# Altium footprint library Interface.PcbLib: 14 footprints
Each footprint in its own frame and in the unit in brackets; x right, y up, seen from the top. Pads: shape width x height; smd on the part's side, far side on the other; paste and mask are expansions set on the pad; w line width, h text height; cw(c..) or ccw(c..) is an arc to the next point about the centre after c.
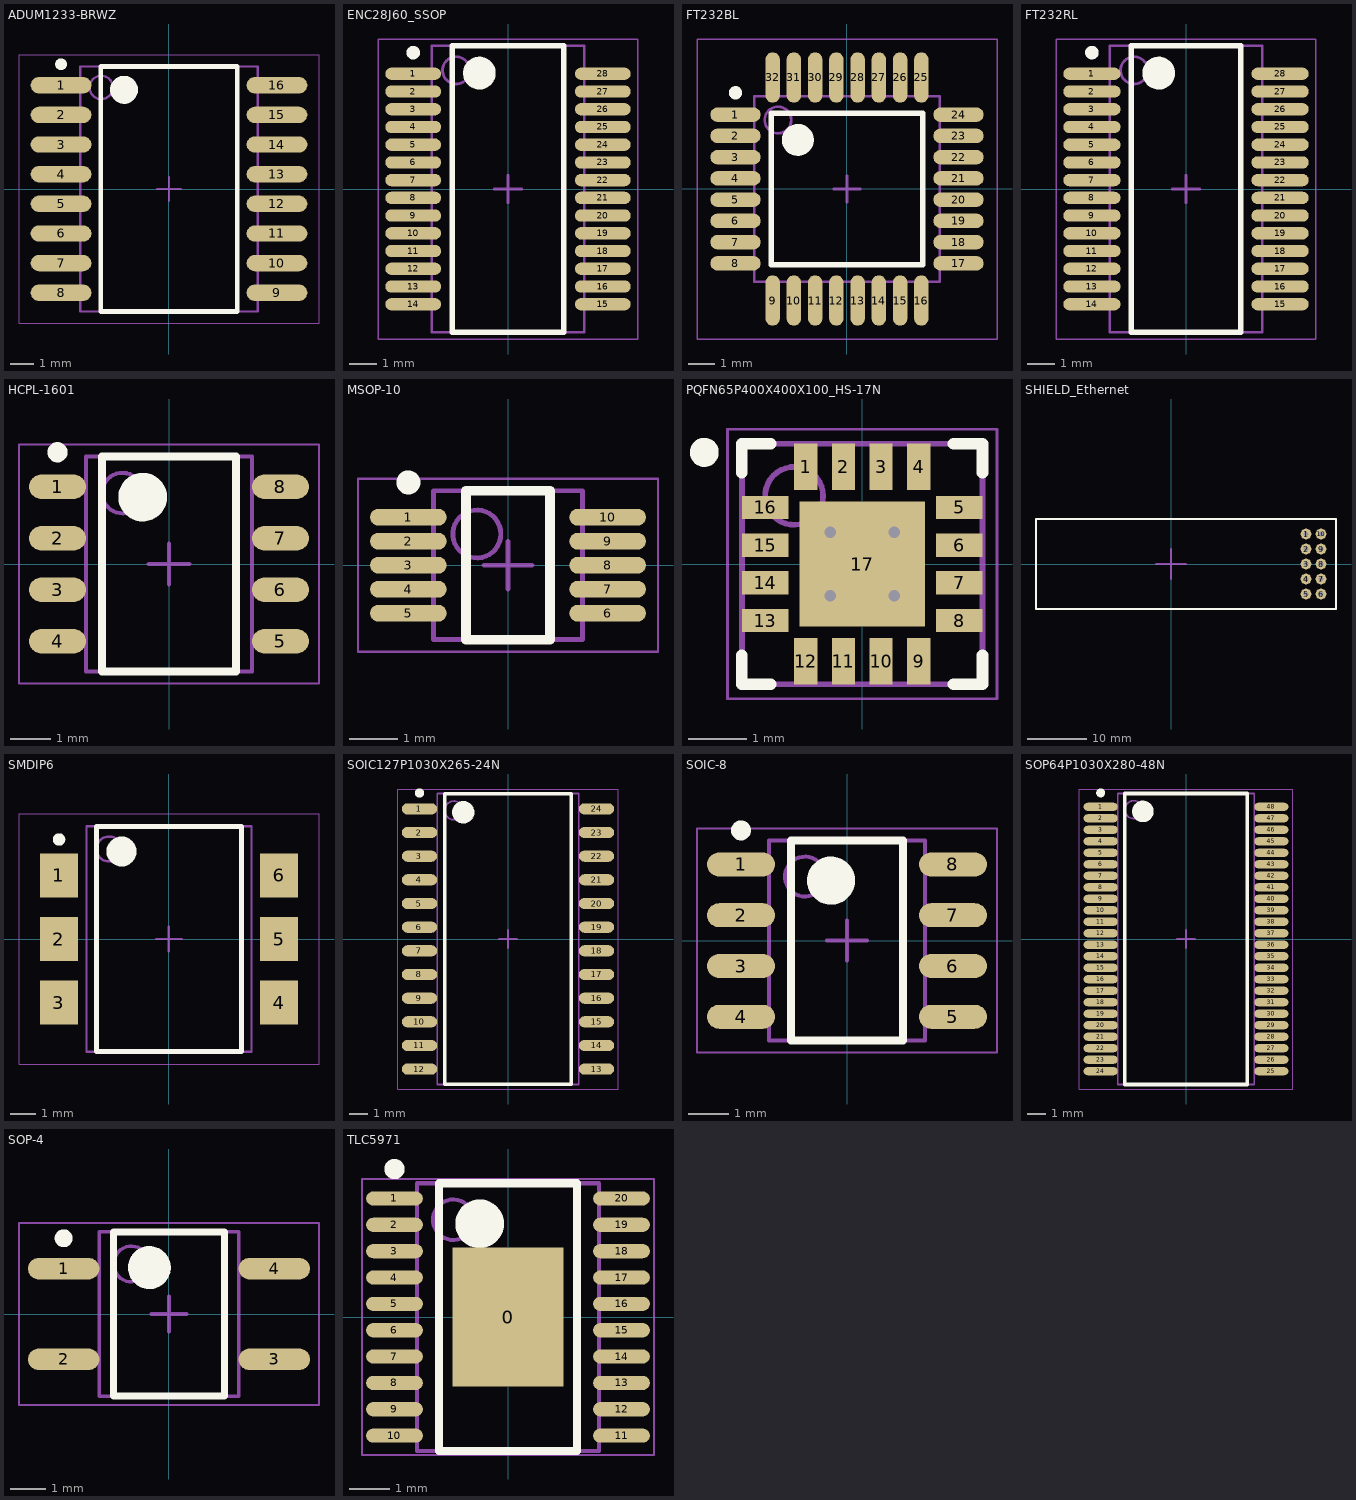
[diagram p0: the footprints below, top view; thin cyan lines are the x and y axes]

## ADUM1233-BRWZ [mm] "16-Lead Standard Small Outline Package [SOIC_W]   Wide Body   (RW-16)"
height 2.65
pads (16):
  oval 2.6x0.7 smd: 1(-4.625,4.445) 2(-4.625,3.175) 3(-4.625,1.905) 4(-4.625,0.635) 5(-4.625,-0.635) 6(-4.625,-1.905) 7(-4.625,-3.175) 8(-4.625,-4.445) 9(4.625,-4.445) 10(4.625,-3.175) 11(4.625,-1.905) 12(4.625,-0.635) 13(4.625,0.635) 14(4.625,1.905) 15(4.625,3.175) 16(4.625,4.445)
Top Overlay:
  circle w0.6: c-1.925,4.25 r0.3
  circle w0.25: c-4.625,5.345 r0.125
  lines w0.2: -2.925,-5.25 2.925,-5.25 2.925,5.25 -2.925,5.25 -2.925,-5.25
Mechanical 13:
  circle w0.1: c-2.9,4.35 r0.5
  lines w0.1: -3.8,-5.25 3.8,-5.25 3.8,5.25 -3.8,5.25 -3.8,-5.25
Mechanical 15:
  lines w0.05: -6.425,-5.75 6.425,-5.75 6.425,5.75 -6.425,5.75 -6.425,-5.75
  lines w0.1: -0.5,0 0.5,0 ; 0,-0.5 0,0.5
3D body: height 2.65, standoff 0.1, extent -3.8,-5.25 3.8,5.25

## ENC28J60_SSOP [mm] "SOP, 28-Leads, Body 10,20x5,30mm, Pitch 0,65mm, IPC Medium Density"
height 2
pads (28):
  oval 2.05x0.45 smd: 1(-3.475,4.225) 2(-3.475,3.575) 3(-3.475,2.925) 4(-3.475,2.275) 5(-3.475,1.625) 6(-3.475,0.975) 7(-3.475,0.325) 8(-3.475,-0.325) 9(-3.475,-0.975) 10(-3.475,-1.625) 11(-3.475,-2.275) 12(-3.475,-2.925) 13(-3.475,-3.575) 14(-3.475,-4.225) 15(3.475,-4.225) 16(3.475,-3.575) 17(3.475,-2.925) 18(3.475,-2.275) 19(3.475,-1.625) 20(3.475,-0.975) 21(3.475,-0.325) 22(3.475,0.325) 23(3.475,0.975) 24(3.475,1.625) 25(3.475,2.275) 26(3.475,2.925) 27(3.475,3.575) 28(3.475,4.225)
Top Overlay:
  circle w0.6: c-1.05,4.25 r0.3
  circle w0.25: c-3.475,5 r0.125
  lines w0.2: -2.05,-5.25 2.05,-5.25 2.05,5.25 -2.05,5.25 -2.05,-5.25
Mechanical 13:
  circle w0.1: c-1.9,4.35 r0.5
  lines w0.1: -2.8,-5.25 2.8,-5.25 2.8,5.25 -2.8,5.25 -2.8,-5.25
Mechanical 15:
  lines w0.05: -4.75,-5.5 4.75,-5.5 4.75,5.5 -4.75,5.5 -4.75,-5.5
  lines w0.1: -0.5,0 0.5,0 ; 0,-0.5 0,0.5
3D body: height 2, standoff 0.05, extent -2.8,-5.25 2.8,5.25

## FT232BL [mm] "LQFP, 32-Leads, Body 7,00x7,00mm, Pitch 0,80mm, IPC Low Density"
height 1.6
pads (32):
  oval 1.9x0.55 smd: 1(-4.2,2.8) 2(-4.2,2) 3(-4.2,1.2) 4(-4.2,0.4) 5(-4.2,-0.4) 6(-4.2,-1.2) 7(-4.2,-2) 8(-4.2,-2.8) 17(4.2,-2.8) 18(4.2,-2) 19(4.2,-1.2) 20(4.2,-0.4) 21(4.2,0.4) 22(4.2,1.2) 23(4.2,2) 24(4.2,2.8)
  oval 0.55x1.9 smd: 9(-2.8,-4.2) 10(-2,-4.2) 11(-1.2,-4.2) 12(-0.4,-4.2) 13(0.4,-4.2) 14(1.2,-4.2) 15(2,-4.2) 16(2.8,-4.2) 25(2.8,4.2) 26(2,4.2) 27(1.2,4.2) 28(0.4,4.2) 29(-0.4,4.2) 30(-1.2,4.2) 31(-2,4.2) 32(-2.8,4.2)
Top Overlay:
  circle w0.6: c-1.85,1.85 r0.3
  circle w0.25: c-4.2,3.625 r0.125
  lines w0.2: -2.85,-2.85 2.85,-2.85 2.85,2.85 -2.85,2.85 -2.85,-2.85
Mechanical 13:
  circle w0.1: c-2.6,2.6 r0.5
  lines w0.1: -3.5,-3.5 3.5,-3.5 3.5,3.5 -3.5,3.5 -3.5,-3.5
Mechanical 15:
  lines w0.05: -5.65,-5.65 5.65,-5.65 5.65,5.65 -5.65,5.65 -5.65,-5.65
  lines w0.1: -0.5,0 0.5,0 ; 0,-0.5 0,0.5
3D body: height 1.6, standoff 0.05, extent -3.5,-3.5 3.5,3.5

## FT232RL [mm] "SOP, 28-Leads, Body 10,20x5,30mm, Pitch 0,65mm, IPC Medium Density"
height 2
pads (28):
  oval 2.1x0.45 smd: 1(-3.45,4.225) 2(-3.45,3.575) 3(-3.45,2.925) 4(-3.45,2.275) 5(-3.45,1.625) 6(-3.45,0.975) 7(-3.45,0.325) 8(-3.45,-0.325) 9(-3.45,-0.975) 10(-3.45,-1.625) 11(-3.45,-2.275) 12(-3.45,-2.925) 13(-3.45,-3.575) 14(-3.45,-4.225) 15(3.45,-4.225) 16(3.45,-3.575) 17(3.45,-2.925) 18(3.45,-2.275) 19(3.45,-1.625) 20(3.45,-0.975) 21(3.45,-0.325) 22(3.45,0.325) 23(3.45,0.975) 24(3.45,1.625) 25(3.45,2.275) 26(3.45,2.925) 27(3.45,3.575) 28(3.45,4.225)
Top Overlay:
  circle w0.25: c-3.45,5 r0.125
  circle w0.6: c-1,4.25 r0.3
  lines w0.2: -2,-5.25 -2,5.25 2,5.25 2,-5.25 -2,-5.25
Mechanical 13:
  circle w0.1: c-1.9,4.35 r0.5
  lines w0.1: -2.8,-5.25 -2.8,5.25 2.8,5.25 2.8,-5.25 -2.8,-5.25
Mechanical 15:
  lines w0.05: -4.75,-5.5 -4.75,5.5 4.75,5.5 4.75,-5.5 -4.75,-5.5
  lines w0.1: -0.5,0 0.5,0 ; 0,-0.5 0,0.5
3D body: height 2, standoff 0.05, extent -2.8,-5.25 2.8,5.25

## HCPL-1601 [mm] "SOIC, 8-Leads, Body 5,21x3,94mm, Pitch 1,27mm, IPC Medium Density"
height 3.31
pads (8):
  oval 1.4x0.6 smd: 1(-2.75,1.905) 2(-2.75,0.635) 3(-2.75,-0.635) 4(-2.75,-1.905) 5(2.75,-1.905) 6(2.75,-0.635) 7(2.75,0.635) 8(2.75,1.905)
Top Overlay:
  circle w0.6: c-0.65,1.65 r0.3
  circle w0.25: c-2.75,2.755 r0.125
  lines w0.2: -1.65,-2.65 1.65,-2.65 1.65,2.65 -1.65,2.65 -1.65,-2.65
Mechanical 13:
  circle w0.1: c-1.15,1.75 r0.5
  lines w0.1: -2.05,-2.65 2.05,-2.65 2.05,2.65 -2.05,2.65 -2.05,-2.65
Mechanical 15:
  lines w0.05: -3.7,-2.95 3.7,-2.95 3.7,2.95 -3.7,2.95 -3.7,-2.95
  lines w0.1: -0.5,0 0.5,0 ; 0,-0.5 0,0.5
3D body "HCPL-1601.step": height 3.3, standoff 0, extent -2.997,-2.65 2.997,2.65

## MSOP-10 [mm]
height 1.09
pads (10):
  oval 1.6x0.35 smd: 1(-2.075,1) 2(-2.075,0.5) 3(-2.075,0) 4(-2.075,-0.5) 5(-2.075,-1) 6(2.075,-1) 7(2.075,-0.5) 8(2.075,0) 9(2.075,0.5) 10(2.075,1)
Top Overlay:
  circle w0.25: c-2.075,1.725 r0.125
  lines w0.2: -0.875,-1.55 -0.875,1.55 0.875,1.55 0.875,-1.55 -0.875,-1.55
Mechanical 13:
  circle w0.1: c-0.65,0.65 r0.5
  lines w0.1: -1.55,-1.55 -1.55,1.55 1.55,1.55 1.55,-1.55 -1.55,-1.55
Mechanical 15:
  lines w0.05: -3.125,-1.8 -3.125,1.8 3.125,1.8 3.125,-1.8 -3.125,-1.8
  lines w0.1: -0.5,0 0.5,0 ; 0,-0.5 0,0.5
3D body: height 1.09, standoff 0.06, extent -1.55,-1.55 1.55,1.55

## PQFN65P400X400X100_HS-17N [mm] "PQFN, 16-Leads, Body 4,00x4,00mm, Pitch 0,65mm, Thermal Pad 2,16x2,16mm, IPC Medium Density"
height 1
pads (17):
  rect 0.4x0.8 smd: 1(-0.975,1.675) 2(-0.325,1.675) 3(0.325,1.675) 4(0.975,1.675) 9(0.975,-1.675) 10(0.325,-1.675) 11(-0.325,-1.675) 12(-0.975,-1.675)
  rect 0.8x0.4 smd: 5(1.675,0.975) 6(1.675,0.325) 7(1.675,-0.325) 8(1.675,-0.975) 13(-1.675,-0.975) 14(-1.675,-0.325) 15(-1.675,0.325) 16(-1.675,0.975)
  rect 2.16x2.16 smd: 17(0,0)
via 0.55,-0.55 diameter 0.5 hole 0.2
via -0.55,-0.55 diameter 0.5 hole 0.2
via 0.55,0.55 diameter 0.5 hole 0.2
via -0.55,0.55 diameter 0.5 hole 0.2
Top Overlay:
  circle w0.25: c-2.725,1.925 r0.125
  lines w0.2: -2.075,-1.575 -2.075,-2.075 -1.575,-2.075 ; -2.075,1.575 -2.075,2.075 -1.575,2.075 ; 1.575,-2.075 2.075,-2.075 2.075,-1.575 ; 1.575,2.075 2.075,2.075 2.075,1.575
Mechanical 13:
  circle w0.1: c-1.175,1.175 r0.5
  lines w0.1: -2.075,-2.075 2.075,-2.075 2.075,2.075 -2.075,2.075 -2.075,-2.075
Mechanical 15:
  lines w0.05: -2.325,-2.325 2.325,-2.325 2.325,2.325 -2.325,2.325 -2.325,-2.325
  lines w0.1: -0.5,0 0.5,0 ; 0,-0.5 0,0.5
3D body "PQFN65P400X400X100_HS-17N.step": height 1, standoff 0, extent -2.075,-2.075 2.075,2.075

## SHIELD_Ethernet [mm] "Ethernet shield (почти)"
height 15
pads (10):
  round 1.8 hole 0.9: 1(22.86,5.08) 2(22.86,2.54) 3(22.86,0) 4(22.86,-2.54) 5(22.86,-5.08) 6(25.4,-5.08) 7(25.4,-2.54) 8(25.4,0) 9(25.4,2.54) 10(25.4,5.08)
Top Overlay:
  lines w0.3: -22.86,-7.62 -22.86,7.62 27.94,7.62 27.94,-7.62 -22.86,-7.62
Mechanical 13:
  lines w0.3: -22.86,-7.62 -22.86,7.62 27.94,7.62 27.94,-7.62 -22.86,-7.62
Mechanical 15:
  lines w0.3: -2.54,0 0,0 ; 0,-2.54 0,0 ; 0,2.54 0,0 ; 2.54,0 0,0 ; -22.86,-7.62 -22.86,7.62 27.94,7.62 27.94,-7.62 -22.86,-7.62
3D body: height 13, standoff 0.1, extent -22.86,-7.62 -7.62,7.62
3D body: height 15, standoff 13, extent -22.86,-7.62 27.94,7.62
3D body: height 13, standoff 0, extent 21.59,-6.35 26.67,6.35

## SMDIP6 [mm] "SMDIP-6"
height 5.08
pads (6):
  rect 1.52x1.78 smd: 1(-4.4,2.54) 2(-4.4,0) 3(-4.4,-2.54) 4(4.4,-2.54) 5(4.4,0) 6(4.4,2.54)
Top Overlay:
  circle w0.25: c-4.4,3.98 r0.125
  circle w0.6: c-1.9,3.5 r0.3
  lines w0.2: -2.9,-4.5 -2.9,4.5 2.9,4.5 2.9,-4.5 -2.9,-4.5
Mechanical 13:
  circle w0.1: c-2.4,3.6 r0.5
  lines w0.1: -3.3,-4.5 -3.3,4.5 3.3,4.5 3.3,-4.5 -3.3,-4.5
Mechanical 15:
  lines w0.05: -6,-5 -6,5 6,5 6,-5 -6,-5
  lines w0.1: -0.5,0 0.5,0 ; 0,-0.5 0,0.5
3D body "SMDIP6.step": height 5.08, standoff 0, extent -4.583,-4.5 4.583,4.5

## SOIC127P1030X265-24N [mm] "SOIC, 24-Leads, Body 15,40x7,50mm, Pitch 1,27mm, IPC Medium Density"
height 2.65
pads (24):
  oval 1.9x0.6 smd: 1(-4.75,6.985) 2(-4.75,5.715) 3(-4.75,4.445) 4(-4.75,3.175) 5(-4.75,1.905) 6(-4.75,0.635) 7(-4.75,-0.635) 8(-4.75,-1.905) 9(-4.75,-3.175) 10(-4.75,-4.445) 11(-4.75,-5.715) 12(-4.75,-6.985) 13(4.75,-6.985) 14(4.75,-5.715) 15(4.75,-4.445) 16(4.75,-3.175) 17(4.75,-1.905) 18(4.75,-0.635) 19(4.75,0.635) 20(4.75,1.905) 21(4.75,3.175) 22(4.75,4.445) 23(4.75,5.715) 24(4.75,6.985)
Top Overlay:
  circle w0.25: c-4.75,7.835 r0.125
  circle w0.6: c-2.4,6.8 r0.3
  lines w0.2: -3.4,-7.8 -3.4,7.8 3.4,7.8 3.4,-7.8 -3.4,-7.8
Mechanical 13:
  circle w0.1: c-2.9,6.9 r0.5
  lines w0.1: -3.8,-7.8 -3.8,7.8 3.8,7.8 3.8,-7.8 -3.8,-7.8
Mechanical 15:
  lines w0.05: -5.925,-8.05 -5.925,8.05 5.925,8.05 5.925,-8.05 -5.925,-8.05
  lines w0.1: -0.5,0 0.5,0 ; 0,-0.5 0,0.5
3D body "SOIC127P1030X265-24N.step": height 2.65, standoff 0, extent -5.162,-7.8 5.162,7.8

## SOIC-8 [mm]
height 1.44
pads (8):
  oval 1.7x0.6 smd: 1(-2.65,1.905) 2(-2.65,0.635) 3(-2.65,-0.635) 4(-2.65,-1.905) 5(2.65,-1.905) 6(2.65,-0.635) 7(2.65,0.635) 8(2.65,1.905)
Top Overlay:
  circle w0.25: c-2.65,2.755 r0.125
  circle w0.6: c-0.4,1.5 r0.3
  lines w0.2: -1.4,-2.5 -1.4,2.5 1.4,2.5 1.4,-2.5 -1.4,-2.5
Mechanical 13:
  circle w0.1: c-1.05,1.6 r0.5
  lines w0.1: -1.95,-2.5 -1.95,2.5 1.95,2.5 1.95,-2.5 -1.95,-2.5
Mechanical 15:
  lines w0.05: -3.75,-2.8 -3.75,2.8 3.75,2.8 3.75,-2.8 -3.75,-2.8
  lines w0.1: -0.5,0 0.5,0 ; 0,-0.5 0,0.5
3D body: height 1.44, standoff 0.1, extent -1.95,-2.5 1.95,2.5

## SOP64P1030X280-48N [mm] "SOP, 48-Leads, Body 15,90x7,50mm, Pitch 0,64mm, IPC Medium Density"
height 2.8
pads (48):
  oval 1.9x0.45 smd: 1(-4.75,7.36) 2(-4.75,6.72) 3(-4.75,6.08) 4(-4.75,5.44) 5(-4.75,4.8) 6(-4.75,4.16) 7(-4.75,3.52) 8(-4.75,2.88) 9(-4.75,2.24) 10(-4.75,1.6) 11(-4.75,0.96) 12(-4.75,0.32) 13(-4.75,-0.32) 14(-4.75,-0.96) 15(-4.75,-1.6) 16(-4.75,-2.24) 17(-4.75,-2.88) 18(-4.75,-3.52) 19(-4.75,-4.16) 20(-4.75,-4.8) 21(-4.75,-5.44) 22(-4.75,-6.08) 23(-4.75,-6.72) 24(-4.75,-7.36) 25(4.75,-7.36) 26(4.75,-6.72) 27(4.75,-6.08) 28(4.75,-5.44) 29(4.75,-4.8) 30(4.75,-4.16) 31(4.75,-3.52) 32(4.75,-2.88) 33(4.75,-2.24) 34(4.75,-1.6) 35(4.75,-0.96) 36(4.75,-0.32) 37(4.75,0.32) 38(4.75,0.96) 39(4.75,1.6) 40(4.75,2.24) 41(4.75,2.88) 42(4.75,3.52) 43(4.75,4.16) 44(4.75,4.8) 45(4.75,5.44) 46(4.75,6.08) 47(4.75,6.72) 48(4.75,7.36)
Top Overlay:
  circle w0.6: c-2.4,7.1 r0.3
  circle w0.25: c-4.75,8.135 r0.125
  lines w0.2: -3.4,-8.1 3.4,-8.1 3.4,8.1 -3.4,8.1 -3.4,-8.1
Mechanical 13:
  circle w0.1: c-2.9,7.2 r0.5
  lines w0.1: -3.8,-8.1 3.8,-8.1 3.8,8.1 -3.8,8.1 -3.8,-8.1
Mechanical 15:
  lines w0.05: -5.95,-8.35 5.95,-8.35 5.95,8.35 -5.95,8.35 -5.95,-8.35
  lines w0.1: -0.5,0 0.5,0 ; 0,-0.5 0,0.5
3D body "SOP64P1030X280-48N.step": height 2.8, standoff 0, extent -5.175,-8.1 5.175,8.1

## SOP-4 [mm] "SOP, 4-Leads, Body 4,40x3,60mm, Pitch 2,54mm, IPC Medium Density"
height 2.2
pads (4):
  oval 2x0.6 smd: 1(-2.95,1.27) 2(-2.95,-1.27) 3(2.95,-1.27) 4(2.95,1.27)
Top Overlay:
  circle w0.6: c-0.55,1.3 r0.3
  circle w0.25: c-2.95,2.12 r0.125
  lines w0.2: -1.55,-2.3 1.55,-2.3 1.55,2.3 -1.55,2.3 -1.55,-2.3
Mechanical 13:
  circle w0.1: c-1.05,1.4 r0.5
  lines w0.1: -1.95,-2.3 1.95,-2.3 1.95,2.3 -1.95,2.3 -1.95,-2.3
Mechanical 15:
  lines w0.05: -4.2,-2.55 4.2,-2.55 4.2,2.55 -4.2,2.55 -4.2,-2.55
  lines w0.1: -0.5,0 0.5,0 ; 0,-0.5 0,0.5
3D body "SOP-4.step": height 2.2, standoff 0, extent -3.375,-2.3 3.375,2.3

## TLC5971 [mm] "TSOP, 20-Leads, Body 6,50x4,40mm, Pitch 0,65mm, IPC High Density"
height 1.2
pads (21):
  rect 2.75x3.43 smd: 0(0,0)
  oval 1.4x0.35 smd: 1(-2.8,2.925) 2(-2.8,2.275) 3(-2.8,1.625) 4(-2.8,0.975) 5(-2.8,0.325) 6(-2.8,-0.325) 7(-2.8,-0.975) 8(-2.8,-1.625) 9(-2.8,-2.275) 10(-2.8,-2.925) 11(2.8,-2.925) 12(2.8,-2.275) 13(2.8,-1.625) 14(2.8,-0.975) 15(2.8,-0.325) 16(2.8,0.325) 17(2.8,0.975) 18(2.8,1.625) 19(2.8,2.275) 20(2.8,2.925)
Top Overlay:
  circle w0.6: c-0.7,2.3 r0.3
  circle w0.25: c-2.8,3.65 r0.125
  lines w0.2: -1.7,-3.3 1.7,-3.3 1.7,3.3 -1.7,3.3 -1.7,-3.3
Mechanical 13:
  circle w0.1: c-1.35,2.4 r0.5
  lines w0.1: -2.25,-3.3 2.25,-3.3 2.25,3.3 -2.25,3.3 -2.25,-3.3
Mechanical 15:
  lines w0.05: -3.6,-3.4 3.6,-3.4 3.6,3.4 -3.6,3.4 -3.6,-3.4
  lines w0.1: -0.5,0 0.5,0 ; 0,-0.5 0,0.5
3D body: height 1.2, standoff 0.25, extent -2.25,-3.3 2.25,3.3